# Altium schematic symbol library Simple-PAD.SchLib: 1 symbol
Pins are listed as number, name and electrical type; pins without a type are passive.

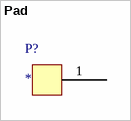
[diagram p0: symbol Pad]

## Pad
designator P?
footprint Simple-PAD-PCB
pins: 1